# Altium schematic symbol library Button.SchLib: 27 symbols
Pins are listed as number, name and electrical type; pins without a type are passive.

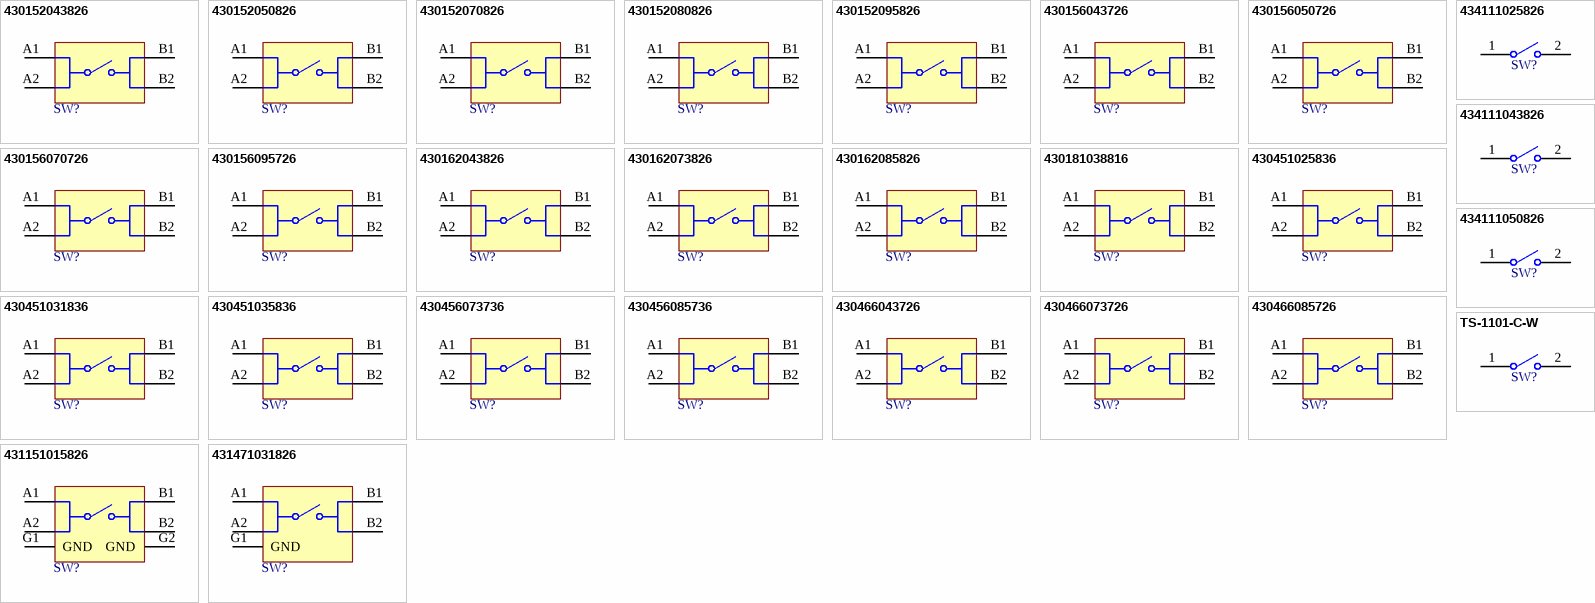
[diagram p0: symbols 430152043826 to TS-1101-C-W]

## 430152043826
designator SW?  (value not drawn)
WS-TASV SMT Tact Switch, L6 x W6 x H4.3mm, 260g, SPST-NO, 12V, 50mA; Manufacturer: Wurth Elektronik; Washable: No; Rated Voltage: 12VDC; Manufacturer Part Number: 430152043826; Category: Tact Switches; Match Code: WS-TASV; Mount: Surface Mount; Operating Temperature Max: 85°C; Operating Temperature Min: -40°C; Packaging: Tape and Reel; Length: 6mm; Width: 6mm; Height: 4.3mm; Circuit: SPST-NO; Contact Material: Stainless Steel; Operation Force: 260g; Rated Current: 50mA; Terminal Material: Copper Alloy; Terminal Plating: Silver; Supplier 1 URL: https://www.mouser.vn/ProductDetail/Wurth-Elektronik/430152043826?qs=wr8lucFkNMUjBcFj1giTsA%3D%3D; Supplier 2 URL: https://www.digikey.com/en/products/detail/w%C3%BCrth-elektronik/430152043826/5208994; Supplier 3 URL: https://www.thegioiic.com/nut-nhan-6x6mm-cao-4-3mm-4-chan-smd; LCSC Part #: N/A; ComponentLink1Description: Datasheet; ComponentLink1URL: https://www.we-online.com/redexpert/spec/430152043826?ad; Package / Case: 0805; Supplier 1: Mouser; Supplier 1 Part Number: 710-430152043826; Supplier 2: Digi-Key; Supplier 2 Part Number: 732-6991-2-ND; Supplier 3: thegioiic; Supplier 3 Part Number: OEM; Value: 430152043826
footprint WS-TASV_L6W6H4.3_4301x20438x6
pins: A1, A2, B1, B2

## 430152050826
designator SW?  (value not drawn)
WS-TASV SMT Tact Switch, L6 x W6 x H5mm, 260g, SPST-NO, 12V, 50mA; Manufacturer: Wurth Elektronik; Washable: No; Rated Voltage: 12VDC; Manufacturer Part Number: 430152050826; Category: Tact Switches; Match Code: WS-TASV; Mount: Surface Mount; Operating Temperature Max: 85°C; Operating Temperature Min: -40°C; Packaging: Tape and Reel; Length: 6mm; Width: 6mm; Height: 5mm; Circuit: SPST-NO; Contact Material: Stainless Steel; Operation Force: 260g; Rated Current: 50mA; Terminal Material: Copper Alloy; Terminal Plating: Silver; Supplier 1 URL: https://www.mouser.vn/ProductDetail/Wurth-Elektronik/430152050826?qs=wr8lucFkNMXbUWez0eOAow%3D%3D; Supplier 2 URL: https://www.digikey.com/en/products/detail/w%C3%BCrth-elektronik/430152050826/5208996; Supplier 3 URL: https://www.thegioiic.com/nut-nhan-6x6mm-cao-5mm-4-chan-smd; LCSC Part #: N/A; ComponentLink1Description: Datasheet; ComponentLink1URL: https://www.we-online.com/redexpert/spec/430152050826?ad; Package / Case: 0805; Supplier 1: Mouser; Supplier 1 Part Number: 710-430152050826; Supplier 2: Digi-Key; Supplier 2 Part Number: 732-6993-2-ND; Supplier 3: thegioiic; Supplier 3 Part Number: OEM; Value: 430152050826
footprint WS-TASV_L6W6H5_4301x20508x6
pins: A1, A2, B1, B2

## 430152070826
designator SW?  (value not drawn)
WS-TASV SMT Tact Switch, L6 x W6 x H7mm, 260g, SPST-NO, 12V, 50mA; Manufacturer: Wurth Elektronik; Washable: No; Rated Voltage: 12VDC; Manufacturer Part Number: 430152070826; Category: Tact Switches; Match Code: WS-TASV; Mount: Surface Mount; Operating Temperature Max: 85°C; Operating Temperature Min: -40°C; Packaging: Tape and Reel; Length: 6mm; Width: 6mm; Height: 7mm; Circuit: SPST-NO; Contact Material: Stainless Steel; Operation Force: 260g; Rated Current: 50mA; Terminal Material: Copper Alloy; Terminal Plating: Silver; Supplier 1 URL: https://www.mouser.vn/ProductDetail/Wurth-Elektronik/430152070826?qs=wr8lucFkNMU1ehywepWrdw%3D%3D; Supplier 2 URL: https://www.digikey.com/en/products/detail/w%C3%BCrth-elektronik/430152070826/5208998; Supplier 3 URL: https://www.thegioiic.com/nut-nhan-6x6mm-cao-7mm-4-chan-smd; LCSC Part #: N/A; ComponentLink1Description: Datasheet; ComponentLink1URL: https://www.we-online.com/redexpert/spec/430152070826?ad; Package / Case: 0805; Supplier 1: Mouser; Supplier 1 Part Number: 710-430152070826; Supplier 2: Digi-Key; Supplier 2 Part Number: 732-6995-2-ND; Supplier 3: thegioiic; Supplier 3 Part Number: OEM; Value: 430152070826
footprint WS-TASV_L6W6H7_4301x20708x6
pins: A1, A2, B1, B2

## 430152080826
designator SW?  (value not drawn)
WS-TASV SMT Tact Switch, L6 x W6 x H8mm, 260g, SPST-NO, 12V, 50mA; Manufacturer: Wurth Elektronik; Washable: No; Rated Voltage: 12VDC; Manufacturer Part Number: 430152080826; Category: Tact Switches; Match Code: WS-TASV; Mount: Surface Mount; Operating Temperature Max: 85°C; Operating Temperature Min: -40°C; Packaging: Tape and Reel; Length: 6mm; Width: 6mm; Height: 8mm; Circuit: SPST-NO; Contact Material: Stainless Steel; Operation Force: 260g; Rated Current: 50mA; Terminal Material: Copper Alloy; Terminal Plating: Silver; Supplier 1 URL: https://www.mouser.vn/ProductDetail/Wurth-Elektronik/430152080826?qs=wr8lucFkNMVrqk6KzzD5nA%3D%3D; Supplier 2 URL: https://www.digikey.com/en/products/detail/w%C3%BCrth-elektronik/430152080826/5209000; Supplier 3 URL: https://www.thegioiic.com/nut-nhan-6x6mm-cao-8mm-4-chan-smd; LCSC Part #: N/A; ComponentLink1Description: Datasheet; ComponentLink1URL: https://www.we-online.com/redexpert/spec/430152080826?ad; Package / Case: 0805; Supplier 1: Mouser; Supplier 1 Part Number: 710-430152080826; Supplier 2: Digi-Key; Supplier 2 Part Number: 732-6997-2-ND; Supplier 3: thegioiic; Supplier 3 Part Number: OEM; Value: 430152080826
footprint WS-TASV_L6W6H8_4301x20808x6
pins: A1, A2, B1, B2

## 430152095826
designator SW?  (value not drawn)
WS-TASV SMT Tact Switch, L6 x W6 x H9.5mm, 260g, SPST-NO, 12V, 50mA; Manufacturer: Wurth Elektronik; Washable: No; Rated Voltage: 12VDC; Manufacturer Part Number: 430152095826; Category: Tact Switches; Match Code: WS-TASV; Mount: Surface Mount; Operating Temperature Max: 85°C; Operating Temperature Min: -40°C; Packaging: Tape and Reel; Length: 6mm; Width: 6mm; Height: 9.5mm; Circuit: SPST-NO; Contact Material: Stainless Steel; Operation Force: 260g; Rated Current: 50mA; Terminal Material: Copper Alloy; Terminal Plating: Silver; Supplier 1 URL: https://www.mouser.vn/ProductDetail/Wurth-Elektronik/430152095826?qs=wr8lucFkNMW6hiihfkGj%2FQ%3D%3D; Supplier 2 URL: https://www.digikey.com/en/products/detail/w%C3%BCrth-elektronik/430152095826/5209002; Supplier 3 URL: https://www.thegioiic.com/nut-nhan-6x6mm-cao-9mm-4-chan-smd; LCSC Part #: N/A; ComponentLink1Description: Datasheet; ComponentLink1URL: https://www.we-online.com/redexpert/spec/430152095826?ad; Package / Case: 0805; Supplier 1: Mouser; Supplier 1 Part Number: 710-430152095826; Supplier 2: Digi-Key; Supplier 2 Part Number: 732-6999-2-ND; Supplier 3: thegioiic; Supplier 3 Part Number: OEM; Value: 430152095826
footprint WS-TASV_L6W6H9.5_4301x20958x6
pins: A1, A2, B1, B2

## 430156043726
designator SW?  (value not drawn)
WS-TATV THT Tact Switch 6x6mm, SPST-NO, 12VDC, 50mA, 260g; Manufacturer: Wurth Elektronik; Washable: No; Manufacturer Part Number: 430156043726; Category: Tact Switches; Match Code: WS-TATV; Mount: Through Hole; Operating Temperature Max: 85°C; Operating Temperature Min: -40°C; Packaging: Bulk; Length: 6mm; Width: 6mm; Height: 4.3mm; Circuit: SPST-NO; Contact Material: Stainless Steel; Operation Force: 260g; Rated Current: 50mA; Rated Voltage: 12VDC; Terminal Material: Copper Alloy; Terminal Plating: Silver; Supplier 1 URL: https://www.mouser.vn/ProductDetail/Wurth-Elektronik/430156043726?qs=wr8lucFkNMVvKRpwxYTfow%3D%3D; Supplier 2 URL: https://www.digikey.com/en/products/detail/w%C3%BCrth-elektronik/430156043726/5209006; Supplier 3 URL: https://www.thegioiic.com/nut-nhan-6x6mm-cao-4-3mm-4-chan-xuyen-lo; LCSC Part #: N/A; ComponentLink1Description: Datasheet; ComponentLink1URL: https://www.we-online.com/redexpert/spec/430156043726?ad; Package / Case: 0805; Supplier 1: Mouser; Supplier 1 Part Number: 710-430156043726; Supplier 2: Digi-Key; Supplier 2 Part Number: 430156043726-ND; Supplier 3: thegioiic; Supplier 3 Part Number: OEM; Value: 430156043726
footprint 4301x60437x6
pins: A1, A2, B1, B2

## 430156050726
designator SW?  (value not drawn)
WS-TATV THT Tact Switch 6x6mm, SPST-NO, 12VDC, 50mA, 260g; Manufacturer: Wurth Elektronik; Washable: No; Manufacturer Part Number: 430156050726; Category: Tact Switches; Match Code: WS-TATV; Mount: Through Hole; Operating Temperature Max: 85°C; Operating Temperature Min: -40°C; Packaging: Bulk; Length: 6mm; Width: 6mm; Height: 5mm; Circuit: SPST-NO; Contact Material: Stainless Steel; Operation Force: 260g; Rated Current: 50mA; Rated Voltage: 12VDC; Terminal Material: Copper Alloy; Terminal Plating: Silver; Supplier 1 URL: https://www.mouser.vn/ProductDetail/Wurth-Elektronik/430156050726?qs=wr8lucFkNMXAQ5fIFHiwBQ%3D%3D; Supplier 2 URL: https://www.digikey.com/en/products/detail/w%C3%BCrth-elektronik/430156050726/5209008; Supplier 3 URL: https://www.thegioiic.com/nut-nhan-6x6mm-cao-5mm-4-chan-xuyen-lo; LCSC Part #: N/A; ComponentLink1Description: Datasheet; ComponentLink1URL: https://www.we-online.com/redexpert/spec/430156050726?ad; Package / Case: 0805; Supplier 1: Mouser; Supplier 1 Part Number: 710-430156050726; Supplier 2: Digi-Key; Supplier 2 Part Number: 430156050726-ND; Supplier 3: thegioiic; Supplier 3 Part Number: OEM; Value: 430156050726
footprint 4301x60507x6
pins: A1, A2, B1, B2

## 430156070726
designator SW?  (value not drawn)
WS-TATV THT Tact Switch 6x6mm, SPST-NO, 12VDC, 50mA, 260g; Manufacturer: Wurth Elektronik; Washable: No; Manufacturer Part Number: 430156070726; Category: Tact Switches; Match Code: WS-TATV; Mount: Through Hole; Operating Temperature Max: 85°C; Operating Temperature Min: -40°C; Packaging: Bulk; Length: 6mm; Width: 6mm; Height: 7mm; Circuit: SPST-NO; Contact Material: Stainless Steel; Operation Force: 260g; Rated Current: 50mA; Rated Voltage: 12VDC; Terminal Material: Copper Alloy; Terminal Plating: Silver; Supplier 1 URL: https://www.mouser.vn/ProductDetail/Wurth-Elektronik/430156070726?qs=wr8lucFkNMXAOydb1CGHPQ%3D%3D; Supplier 2 URL: https://www.digikey.com/en/products/detail/w%C3%BCrth-elektronik/430156070726/5209010; Supplier 3 URL: https://www.thegioiic.com/nut-nhan-6x6mm-cao-7mm-4-chan-xuyen-lo; LCSC Part #: N/A; ComponentLink1Description: Datasheet; ComponentLink1URL: https://www.we-online.com/redexpert/spec/430156070726?ad; Package / Case: 0805; Supplier 1: Mouser; Supplier 1 Part Number: 710-430156070726; Supplier 2: Digi-Key; Supplier 2 Part Number: 430156070726-ND; Supplier 3: thegioiic; Supplier 3 Part Number: OEM; Value: 430156070726
footprint 4301x60707x6
pins: A1, A2, B1, B2

## 430156095726
designator SW?  (value not drawn)
WS-TATV THT Tact Switch 6x6mm, SPST-NO, 12VDC, 50mA, 260g; Manufacturer: Wurth Elektronik; Washable: No; Manufacturer Part Number: 430156095726; Category: Tact Switches; Match Code: WS-TATV; Mount: Through Hole; Operating Temperature Max: 85°C; Operating Temperature Min: -40°C; Packaging: Bulk; Length: 6mm; Width: 6mm; Height: 9.5mm; Circuit: SPST-NO; Contact Material: Stainless Steel; Operation Force: 260g; Rated Current: 50mA; Rated Voltage: 12VDC; Terminal Material: Copper Alloy; Terminal Plating: Silver; Supplier 1 URL: https://www.mouser.vn/ProductDetail/Wurth-Elektronik/430156095726?qs=wr8lucFkNMWrYKLaUHLBYA%3D%3D; Supplier 2 URL: https://www.digikey.com/en/products/detail/w%C3%BCrth-elektronik/430156095726/5209012; Supplier 3 URL: https://www.thegioiic.com/nut-nhan-6x6mm-cao-7mm-4-chan-xuyen-lo; LCSC Part #: N/A; ComponentLink1Description: Datasheet; ComponentLink1URL: https://www.we-online.com/redexpert/spec/430156095726?ad; Package / Case: 0805; Supplier 1: Mouser; Supplier 1 Part Number: 710-430156095726; Supplier 2: Digi-Key; Supplier 2 Part Number: 430156095726-ND; Supplier 3: thegioiic; Supplier 3 Part Number: OEM; Value: 430156095726
footprint 4301x60957x6
pins: A1, A2, B1, B2

## 430162043826
designator SW?  (value not drawn)
WS-TASV SMT Tact Switch, L12 x W12 x H4.3mm, 260g, SPST-NO, 12V, 50mA; Manufacturer: Wurth Elektronik; Washable: No; Rated Voltage: 12VDC; Manufacturer Part Number: 430162043826; Category: Tact Switches; Match Code: WS-TASV; Mount: Surface Mount; Operating Temperature Max: 85°C; Operating Temperature Min: -40°C; Packaging: Tape and Reel; Length: 12mm; Width: 12mm; Height: 4.3mm; Circuit: SPST-NO; Contact Material: Stainless Steel; Operation Force: 260g; Rated Current: 50mA; Terminal Material: Copper Alloy; Terminal Plating: Silver; Supplier 1 URL: https://www.mouser.vn/ProductDetail/Wurth-Elektronik/430162043826?qs=sPbYRqrBIVkEIWSodsnONA%3D%3D; Supplier 2 URL: https://www.digikey.com/en/products/detail/w%C3%BCrth-elektronik/430162043826/9950802; Supplier 3 URL: https://www.thegioiic.com/nut-nhan-12x12mm-cao-4-3mm-4-chan-smd; LCSC Part #: N/A; ComponentLink1Description: Datasheet; ComponentLink1URL: https://www.we-online.com/redexpert/spec/430162043826?ad; Package / Case: 0805; Supplier 1: Mouser; Supplier 1 Part Number: 710-430162043826; Supplier 2: Digi-Key; Supplier 2 Part Number: 732-13655-2-ND; Supplier 3: thegioiic; Supplier 3 Part Number: OEM; Value: 430162043826
footprint WS-TASV_L12W12H4.3_4301x20438x6
pins: A1, A2, B1, B2

## 430162073826
designator SW?  (value not drawn)
WS-TASV SMT Tact Switch, L12 x W12 x H7.3mm, 260g, SPST-NO, 12V, 50mA; Manufacturer: Wurth Elektronik; Washable: No; Rated Voltage: 12VDC; Manufacturer Part Number: 430162073826; Category: Tact Switches; Match Code: WS-TASV; Mount: Surface Mount; Operating Temperature Max: 85°C; Operating Temperature Min: -40°C; Packaging: Tape and Reel; Length: 12mm; Width: 12mm; Height: 7.3mm; Circuit: SPST-NO; Contact Material: Stainless Steel; Operation Force: 260g; Rated Current: 50mA; Terminal Material: Copper Alloy; Terminal Plating: Silver; Supplier 1 URL: https://www.mouser.vn/ProductDetail/Wurth-Elektronik/430162073826?qs=sPbYRqrBIVnU2U4pD5JJ5w%3D%3D; Supplier 2 URL: https://www.digikey.com/en/products/detail/w%C3%BCrth-elektronik/430162073826/9950803; Supplier 3 URL: https://www.thegioiic.com/nut-nhan-12x12mm-cao-7-3mm-4-chan-smd; LCSC Part #: N/A; ComponentLink1Description: Datasheet; ComponentLink1URL: https://www.we-online.com/redexpert/spec/430162073826?ad; Package / Case: 0805; Supplier 1: Mouser; Supplier 1 Part Number: 710-430162073826; Supplier 2: Digi-Key; Supplier 2 Part Number: 732-13656-2-ND; Supplier 3: thegioiic; Supplier 3 Part Number: OEM; Value: 430162073826
footprint WS-TASV_L12W12H7.3_4301x20738x6
pins: A1, A2, B1, B2

## 430162085826
designator SW?  (value not drawn)
WS-TASV SMT Tact Switch, L12 x W12 x H8.5mm, 260g, SPST-NO, 12V, 50mA; Manufacturer: Wurth Elektronik; Washable: No; Rated Voltage: 12VDC; Manufacturer Part Number: 430162085826; Category: Tact Switches; Match Code: WS-TASV; Mount: Surface Mount; Operating Temperature Max: 85°C; Operating Temperature Min: -40°C; Packaging: Tape and Reel; Length: 12mm; Width: 12mm; Height: 8.5mm; Circuit: SPST-NO; Contact Material: Stainless Steel; Operation Force: 260g; Rated Current: 50mA; Terminal Material: Copper Alloy; Terminal Plating: Silver; Supplier 1 URL: https://www.mouser.vn/ProductDetail/Wurth-Elektronik/430162085826?qs=sPbYRqrBIVnNOZ1%252Bx8%2F2Rw%3D%3D; Supplier 2 URL: https://www.digikey.com/en/products/detail/w%C3%BCrth-elektronik/430162085826/9950804?s=N4IgTCBcDaICwGYAMBGAbGJAOArFsaIAugL5A; Supplier 3 URL: N/A; LCSC Part #: N/A; ComponentLink1Description: Datasheet; ComponentLink1URL: https://www.we-online.com/redexpert/spec/430162085826?ad; Package / Case: 0805; Supplier 1: Mouser; Supplier 1 Part Number: 710-430162085826; Supplier 2: Digi-Key; Supplier 2 Part Number: 732-13657-2-ND; Supplier 3: thegioiic; Supplier 3 Part Number: OEM; Value: 430162085826
footprint WS-TASV_L12W12H8.5_4301x20858x6
pins: A1, A2, B1, B2

## 430181038816
designator SW?  (value not drawn)
WS-TASV SMT Tact Switch, L4.5 x W4.5 x H3.8mm, 160g, SPST-NO, 12V, 50mA; Manufacturer: Wurth Elektronik; Washable: No; Rated Voltage: 12VDC; Manufacturer Part Number: 430181038816; Category: Tact Switches; Match Code: WS-TASV; Mount: Surface Mount; Operating Temperature Max: 85°C; Operating Temperature Min: -40°C; Packaging: Tape and Reel; Length: 4.5mm; Width: 4.5mm; Height: 3.8mm; Circuit: SPST-NO; Contact Material: Stainless Steel; Operation Force: 160g; Rated Current: 50mA; Terminal Material: Copper Alloy; Terminal Plating: Silver; Supplier 1 URL: https://www.mouser.vn/ProductDetail/Wurth-Elektronik/430181038816?qs=wr8lucFkNMWIANaPOquJXg%3D%3D; Supplier 2 URL: https://www.digikey.com/en/products/detail/w%C3%BCrth-elektronik/430181038816/5209016?s=N4IgTCBcDaICwGYAMBGAHCpC0YGwgF0BfIA; Supplier 3 URL: https://www.thegioiic.com/nut-nhan-4-5x4-5mm-cao-3-8mm-4-chan-smd; LCSC Part #: N/A; ComponentLink1Description: Datasheet; ComponentLink1URL: https://www.we-online.com/redexpert/spec/430181038816?ad; Package / Case: 0805; Supplier 1: Mouser; Supplier 1 Part Number: 710-430181038816; Supplier 2: Digi-Key; Supplier 2 Part Number: 732-7003-2-ND; Supplier 3: thegioiic; Supplier 3 Part Number: OEM; Value: 430181038816
footprint WS-TASV_L4.5W4.5H3.8_430181038816
pins: A1, A2, B1, B2

## 430451025836
designator SW?  (value not drawn)
WS-TASV SMT Washable Tact Switch, L6 x W6 x H2.5mm, 360g, SPST-NO, 12V, 50mA; Manufacturer: Wurth Elektronik; Washable: Yes; Rated Voltage: 12VDC; Manufacturer Part Number: 430451025836; Category: Tact Switches; Match Code: WS-TASV; Mount: Surface Mount; Operating Temperature Max: 85°C; Operating Temperature Min: -40°C; Packaging: Tape and Reel; Length: 6mm; Width: 6mm; Height: 2.5mm; Circuit: SPST-NO; Contact Material: Stainless Steel; Operation Force: 360g; Rated Current: 50mA; Terminal Material: Brass; Terminal Plating: Silver; Supplier 1 URL: https://www.mouser.vn/ProductDetail/Wurth-Elektronik/430451025836?qs=wr8lucFkNMUcyG98dMqOjA%3D%3D; Supplier 2 URL: https://www.digikey.com/en/products/detail/w%C3%BCrth-elektronik/430451025836/5209028?s=N4IgTCBcDaICwGYAMcCsBGJZUA4EDYQBdAXyA; Supplier 3 URL: https://www.thegioiic.com/nut-nhan-6x6mm-cao-2-5mm-4-chan-smd-dau-do; LCSC Part #: N/A; ComponentLink1Description: Datasheet; ComponentLink1URL: https://www.we-online.com/redexpert/spec/430451025836?ad; Package / Case: 0805; Supplier 1: Mouser; Supplier 1 Part Number: 710-430451025836; Supplier 2: Digi-Key; Supplier 2 Part Number: 732-7010-2-ND; Supplier 3: thegioiic; Supplier 3 Part Number: OEM; Value: 430451025836
footprint WS-TASV_L6W6H2.5_4304x10258x6
pins: A1, A2, B1, B2

## 430451031836
designator SW?  (value not drawn)
WS-TASV SMT Washable Tact Switch, L6 x W6 x H3.1mm, 360g, SPST-NO, 12V, 50mA; Manufacturer: Wurth Elektronik; Washable: Yes; Rated Voltage: 12VDC; Manufacturer Part Number: 430451031836; Category: Tact Switches; Match Code: WS-TASV; Mount: Surface Mount; Operating Temperature Max: 85°C; Operating Temperature Min: -40°C; Packaging: Tape and Reel; Length: 6mm; Width: 6mm; Height: 3.1mm; Circuit: SPST-NO; Contact Material: Stainless Steel; Operation Force: 360g; Rated Current: 50mA; Terminal Material: Brass; Terminal Plating: Silver; Supplier 1 URL: https://www.mouser.vn/ProductDetail/Wurth-Elektronik/430451031836?qs=wr8lucFkNMUrTWmDTdbqqw%3D%3D; Supplier 2 URL: https://www.digikey.com/en/products/detail/w%C3%BCrth-elektronik/430451031836/5209029; Supplier 3 URL: N/A; LCSC Part #: N/A; ComponentLink1Description: Datasheet; ComponentLink1URL: https://www.we-online.com/redexpert/spec/430451031836?ad; Package / Case: 0805; Supplier 1: Mouser; Supplier 1 Part Number: 710-430451031836; Supplier 2: Digi-Key; Supplier 2 Part Number: 732-7011-2-ND; Supplier 3: thegioiic; Supplier 3 Part Number: OEM; Value: 430451031836
footprint WS-TASV_L6W6H3.1_4304x10318x6
pins: A1, A2, B1, B2

## 430451035836
designator SW?  (value not drawn)
WS-TASV SMT Washable Tact Switch, L6 x W6 x H3.5mm, 360g, SPST-NO, 12V, 50mA; Manufacturer: Wurth Elektronik; Washable: Yes; Rated Voltage: 12VDC; Manufacturer Part Number: 430451035836; Category: Tact Switches; Match Code: WS-TASV; Mount: Surface Mount; Operating Temperature Max: 85°C; Operating Temperature Min: -40°C; Packaging: Tape and Reel; Length: 6mm; Width: 6mm; Height: 3.5mm; Circuit: SPST-NO; Contact Material: Stainless Steel; Operation Force: 360g; Rated Current: 50mA; Terminal Material: Brass; Terminal Plating: Silver; Supplier 1 URL: https://www.mouser.vn/ProductDetail/Wurth-Elektronik/430451035836?qs=wr8lucFkNMVsx4f3WHCAuQ%3D%3D; Supplier 2 URL: https://www.digikey.com/en/products/detail/w%C3%BCrth-elektronik/430451035836/5209030; Supplier 3 URL: https://www.thegioiic.com/nut-nhan-6x6mm-cao-3-4mm-4-chan-smd-dau-do; LCSC Part #: N/A; ComponentLink1Description: Datasheet; ComponentLink1URL: https://www.we-online.com/redexpert/spec/430451035836?ad; Package / Case: 0805; Supplier 1: Mouser; Supplier 1 Part Number: 710-430451035836; Supplier 2: Digi-Key; Supplier 2 Part Number: 732-7012-2-ND; Supplier 3: thegioiic; Supplier 3 Part Number: OEM; Value: 430451035836
footprint WS-TASV_L6W6H3.5_4304x10358x6
pins: A1, A2, B1, B2

## 430456073736
designator SW?  (value not drawn)
WS-TATV THT Washable Tact Switch 12x12mm, SPST-NO, 12VDC, 50mA, 360g; Manufacturer: Wurth Elektronik; Washable: Yes; Manufacturer Part Number: 430456073736; Category: Tact Switches; Match Code: WS-TATV; Mount: Through Hole; Operating Temperature Max: 85°C; Operating Temperature Min: -40°C; Packaging: Bulk; Length: 12mm; Width: 12mm; Height: 7.3mm; Circuit: SPST-NO; Contact Material: Stainless Steel; Operation Force: 360g; Rated Current: 50mA; Rated Voltage: 12VDC; Terminal Material: Copper Alloy; Terminal Plating: Silver; Supplier 1 URL: https://www.mouser.vn/ProductDetail/Wurth-Elektronik/430456073736?qs=wr8lucFkNMXwMRqJai0DMg%3D%3D; Supplier 2 URL: https://www.digikey.com/en/products/detail/w%C3%BCrth-elektronik/430456073736/5209035; Supplier 3 URL: https://www.thegioiic.com/b3f-4055-nut-nhan-12x12mm-cao-7-3mm-4-chan-xuyen-lo-omron; LCSC Part #: N/A; ComponentLink1Description: Datasheet; ComponentLink1URL: https://www.we-online.com/redexpert/spec/430456073736?ad; Package / Case: 0805; Supplier 1: Mouser; Supplier 1 Part Number: 710-430456073736; Supplier 2: Digi-Key; Supplier 2 Part Number: 430456073736-ND; Supplier 3: thegioiic; Supplier 3 Part Number: OEM; Value: 430456073736
footprint 4304x60737x6
pins: A1, A2, B1, B2

## 430456085736
designator SW?  (value not drawn)
WS-TATV THT Washable Tact Switch 12x12mm, SPST-NO, 12VDC, 50mA, 360g; Manufacturer: Wurth Elektronik; Washable: Yes; Manufacturer Part Number: 430456085736; Category: Tact Switches; Match Code: WS-TATV; Mount: Through Hole; Operating Temperature Max: 85°C; Operating Temperature Min: -40°C; Packaging: Bulk; Length: 12mm; Width: 12mm; Height: 8.5mm; Circuit: SPST-NO; Contact Material: Stainless Steel; Operation Force: 360g; Rated Current: 50mA; Rated Voltage: 12VDC; Terminal Material: Copper Alloy; Terminal Plating: Silver; Supplier 1 URL: https://www.mouser.vn/ProductDetail/Wurth-Elektronik/430456085736?qs=wr8lucFkNMWKyynw0IFpeA%3D%3D; Supplier 2 URL: https://www.digikey.com/en/products/detail/w%C3%BCrth-elektronik/430456085736/5209036; Supplier 3 URL: N/A; LCSC Part #: N/A; ComponentLink1Description: Datasheet; ComponentLink1URL: https://www.we-online.com/redexpert/spec/430456085736?ad; Package / Case: 0805; Supplier 1: Mouser; Supplier 1 Part Number: 710-430456085736; Supplier 2: Digi-Key; Supplier 2 Part Number: 430456085736-ND; Supplier 3: thegioiic; Supplier 3 Part Number: OEM; Value: 430456085736
footprint 4304x60857x6
pins: A1, A2, B1, B2

## 430466043726
designator SW?  (value not drawn)
WS-TATV THT Washable Tact Switch 12x12mm, SPST-NO, 12VDC, 50mA, 260g; Manufacturer: Wurth Elektronik; Washable: Yes; Manufacturer Part Number: 430466043726; Category: Tact Switches; Match Code: WS-TATV; Mount: Through Hole; Operating Temperature Max: 85°C; Operating Temperature Min: -40°C; Packaging: Bulk; Length: 12mm; Width: 12mm; Height: 4.3mm; Circuit: SPST-NO; Contact Material: Stainless Steel; Operation Force: 260g; Rated Current: 50mA; Rated Voltage: 12VDC; Terminal Material: Copper Alloy; Terminal Plating: Silver; Supplier 1 URL: https://www.mouser.vn/ProductDetail/Wurth-Elektronik/430466043726?qs=wr8lucFkNMVNkuJMxWrs%2Fw%3D%3D; Supplier 2 URL: https://www.digikey.com/en/products/detail/w%C3%BCrth-elektronik/430466043726/5209037; Supplier 3 URL: https://www.thegioiic.com/nut-nhan-12x12mm-cao-4-3mm-4-chan-xuyen-lo; LCSC Part #: N/A; ComponentLink1Description: Datasheet; ComponentLink1URL: https://www.we-online.com/redexpert/spec/430466043726?ad; Package / Case: 0805; Supplier 1: Mouser; Supplier 1 Part Number: 710-430466043726; Supplier 2: Digi-Key; Supplier 2 Part Number: 430466043726-ND; Supplier 3: thegioiic; Supplier 3 Part Number: OEM; Value: 430466043726
footprint 4304x60437x6
pins: A1, A2, B1, B2

## 430466073726
designator SW?  (value not drawn)
WS-TATV THT Washable Tact Switch 12x12mm, SPST-NO, 12VDC, 50mA, 260g; Manufacturer: Wurth Elektronik; Washable: Yes; Manufacturer Part Number: 430466073726; Category: Tact Switches; Match Code: WS-TATV; Mount: Through Hole; Operating Temperature Max: 85°C; Operating Temperature Min: -40°C; Packaging: Bulk; Length: 12mm; Width: 12mm; Height: 7.3mm; Circuit: SPST-NO; Contact Material: Stainless Steel; Operation Force: 260g; Rated Current: 50mA; Rated Voltage: 12VDC; Terminal Material: Copper Alloy; Terminal Plating: Silver; Supplier 1 URL: https://www.mouser.vn/ProductDetail/Wurth-Elektronik/430466073726?qs=wr8lucFkNMU8Y7Fp1J5cEQ%3D%3D; Supplier 2 URL: https://www.digikey.com/en/products/detail/w%C3%BCrth-elektronik/430466073726/5209038; Supplier 3 URL: https://www.thegioiic.com/b3f-4055-nut-nhan-12x12mm-cao-7-3mm-4-chan-xuyen-lo-omron; LCSC Part #: N/A; ComponentLink1Description: Datasheet; ComponentLink1URL: https://www.we-online.com/redexpert/spec/430466073726?ad; Package / Case: 0805; Supplier 1: Mouser; Supplier 1 Part Number: 710-430466073726; Supplier 2: Digi-Key; Supplier 2 Part Number: 430466073726-ND; Supplier 3: thegioiic; Supplier 3 Part Number: OEM; Value: 430466073726
footprint 4304x60737x6
pins: A1, A2, B1, B2

## 430466085726
designator SW?  (value not drawn)
WS-TATV THT Washable Tact Switch 12x12mm, SPST-NO, 12VDC, 50mA, 260g; Manufacturer: Wurth Elektronik; Washable: Yes; Manufacturer Part Number: 430466085726; Category: Tact Switches; Match Code: WS-TATV; Mount: Through Hole; Operating Temperature Max: 85°C; Operating Temperature Min: -40°C; Packaging: Bulk; Length: 12mm; Width: 12mm; Height: 8.5mm; Circuit: SPST-NO; Contact Material: Stainless Steel; Operation Force: 260g; Rated Current: 50mA; Rated Voltage: 12VDC; Terminal Material: Copper Alloy; Terminal Plating: Silver; Supplier 1 URL: https://www.mouser.vn/ProductDetail/Wurth-Elektronik/430466085726?qs=wr8lucFkNMXCSGyn4y5oOA%3D%3D; Supplier 2 URL: https://www.digikey.com/en/products/detail/w%C3%BCrth-elektronik/430466085726/5209039; Supplier 3 URL: https://www.thegioiic.com/nut-nhan-12x12mm-cao-8mm-4-chan-xuyen-lo; LCSC Part #: N/A; ComponentLink1Description: Datasheet; ComponentLink1URL: https://www.we-online.com/redexpert/spec/430466085726?ad; Package / Case: 0805; Supplier 1: Mouser; Supplier 1 Part Number: 710-430466085726; Supplier 2: Digi-Key; Supplier 2 Part Number: 430466085726-ND; Supplier 3: thegioiic; Supplier 3 Part Number: OEM; Value: 430466085726
footprint 4304x60857x6
pins: A1, A2, B1, B2

## 431151015826
designator SW?  (value not drawn)
WS-TASV SMT Tact Switch with ground terminal, L5 x W5 x H1.5mm, 260g, SPST-NO, 15V, 20mA; Manufacturer: Wurth Elektronik; Washable: No; Rated Voltage: 12VDC; Manufacturer Part Number: 431151015826; Category: Tact Switches; Match Code: WS-TASV; Mount: Surface Mount; Operating Temperature Max: 85°C; Operating Temperature Min: -40°C; Packaging: Tape and Reel; Length: 5mm; Width: 5mm; Height: 1.5mm; Circuit: SPST-NO; Contact Material: Stainless Steel; Operation Force: 260g; Rated Current: 20mA; Terminal Material: Copper Alloy; Terminal Plating: Silver; Supplier 1 URL: https://www.mouser.vn/ProductDetail/Wurth-Elektronik/431151015826?qs=wr8lucFkNMWt0fEnpc%252BesA%3D%3D; Supplier 2 URL: https://www.digikey.com/en/products/detail/w%C3%BCrth-elektronik/431151015826/5209056; Supplier 3 URL: N/A; LCSC Part #: N/A; ComponentLink1Description: Datasheet; ComponentLink1URL: https://www.we-online.com/redexpert/spec/431151015826?ad; Package / Case: 0805; Supplier 1: Mouser; Supplier 1 Part Number: 710-431151015826; Supplier 2: Digi-Key; Supplier 2 Part Number: 732-7029-2-ND; Supplier 3: thegioiic; Supplier 3 Part Number: OEM; Value: 431151015826
footprint WS-TASV_L5W5H1.5_4311x10158x6
pins: A1, A2, B1, B2, G1 GND, G2 GND

## 431471031826
designator SW?  (value not drawn)
WS-TASV SMT Tact Switch with ground terminal, L6 x W6 x H3.1mm, 260g, SPST-NO, 12V, 50mA; Manufacturer: Wurth Elektronik; Washable: Yes; Rated Voltage: 12VDC; Manufacturer Part Number: 431471031826; Category: Tact Switches; Match Code: WS-TASV; Mount: Surface Mount; Operating Temperature Max: 85°C; Operating Temperature Min: -40°C; Packaging: Tape and Reel; Length: 6mm; Width: 6mm; Height: 3.1mm; Circuit: SPST-NO; Contact Material: Stainless Steel; Operation Force: 260g; Rated Current: 50mA; Terminal Material: Copper Alloy; Terminal Plating: Silver; Supplier 1 URL: https://www.mouser.vn/ProductDetail/Wurth-Elektronik/431471031826?qs=wr8lucFkNMUEyh4Xi6BS1A%3D%3D; Supplier 2 URL: https://www.digikey.com/en/products/detail/w%C3%BCrth-elektronik/431471031826/5209069; Supplier 3 URL: https://www.thegioiic.com/nut-nhan-6x6mm-cao-3-1mm-5-chan-smd-dau-do; LCSC Part #: N/A; ComponentLink1Description: Datasheet; ComponentLink1URL: https://www.we-online.com/redexpert/spec/431471031826?ad; Package / Case: 0805; Supplier 1: Mouser; Supplier 1 Part Number: 710-431471031826; Supplier 2: Digi-Key; Supplier 2 Part Number: 732-7036-2-ND; Supplier 3: thegioiic; Supplier 3 Part Number: OEM; Value: 431471031826
footprint WS-TASV_L6W6H3.1_4314x10318x6
pins: A1, A2, B1, B2, G1 GND

## 434111025826
designator SW?, comment TAEF-25N-V-T/R  (value not drawn)
WS-TASV SMT Tact Switch, L6 x W3.8 x H2.5mm, 260g, SPST-NO, 12V, 50mA; Manufacturer: Diptronics; Washable: No; Rated Voltage: 12VDC; Manufacturer Part Number: TAEF-25N-V-T/R; Category: Tact Switches; Match Code: WS-TASV; Mount: Surface Mount; Operating Temperature Max: 85°C; Operating Temperature Min: -40°C; Packaging: Tape and Reel; Length: 6mm; Width: 3.8mm; Height: 2.5mm; Circuit: SPST-NO; Contact Material: Stainless Steel; Operation Force: 260g; Rated Current: 50mA; Terminal Material: Copper Alloy; Terminal Plating: Silver; Supplier 1 URL: https://www.mouser.vn/ProductDetail/Wurth-Elektronik/434111025826?qs=wr8lucFkNMV8GC0fIi%2FYYw%3D%3D; Supplier 2 URL: https://www.digikey.com/en/products/detail/w%C3%BCrth-elektronik/434111025826/5209072; Supplier 3 URL: https://www.thegioiic.com/nut-nhan-6x3-8mm-cao-2-5mm-2-chan-smd-dau-xanh-thuong-dong; LCSC Part #: C699451; ComponentLink1Description: Datasheet; ComponentLink1URL: https://datasheet.lcsc.com/lcsc/2007101237_Diptronics-TAEF-25N-V-T-R_C699451.pdf?_gl=1*1eyu9zp*_ga*MTI1Mzk4MDEzNi4xNzAxOTIwNDk2*_ga_98M84MKSZH*MTcxMTM1MTI5NS4xNjkuMS4xNzExMzUxNDAxLjYwLjAuMA..; Package / Case: 0805; Supplier 1: Mouser; Supplier 1 Part Number: 710-434111025826; Supplier 2: Digi-Key; Supplier 2 Part Number: 732-7039-2-ND; Supplier 3: thegioiic; Supplier 3 Part Number: OEM; Value: TAEF-25N-V-T/R
footprint WS-TASV_L6W3.8H2.5_4341x10258x6
pins: 1, 2

## 434111043826
designator SW?  (value not drawn)
WS-TASV SMT Tact Switch, L6 x W3.5 x H4.3mm, 260g, SPST-NO, 12V, 50mA; Manufacturer: Wurth Elektronik; Washable: No; Rated Voltage: 12VDC; Manufacturer Part Number: 434111043826; Category: Tact Switches; Match Code: WS-TASV; Mount: Surface Mount; Operating Temperature Max: 85°C; Operating Temperature Min: -40°C; Packaging: Tape and Reel; Length: 6mm; Width: 3.5mm; Height: 4.3mm; Circuit: SPST-NO; Contact Material: Stainless Steel; Operation Force: 260g; Rated Current: 50mA; Terminal Material: Copper Alloy; Terminal Plating: Silver; Supplier 1 URL: https://www.mouser.vn/ProductDetail/Wurth-Elektronik/434111043826?qs=wr8lucFkNMW3koBfPj4qpQ%3D%3D; Supplier 2 URL: https://www.digikey.com/en/products/detail/w%C3%BCrth-elektronik/434111043826/5209073; Supplier 3 URL: N/A; LCSC Part #: N/A; ComponentLink1Description: Datasheet; ComponentLink1URL: https://www.we-online.com/redexpert/spec/434111043826?ad; Package / Case: 0805; Supplier 1: Mouser; Supplier 1 Part Number: 710-434111043826; Supplier 2: Digi-Key; Supplier 2 Part Number: 732-7040-2-ND; Supplier 3: thegioiic; Supplier 3 Part Number: OEM; Value: 434111043826
footprint WS-TASV_L6W3.5H4.3_4341x10438x6
pins: 1, 2

## 434111050826
designator SW?  (value not drawn)
WS-TASV SMT Tact Switch, L6 x W3.5 x H5mm, 260g, SPST-NO, 12V, 50mA; Manufacturer: Wurth Elektronik; Washable: No; Rated Voltage: 12VDC; Manufacturer Part Number: 434111050826; Category: Tact Switches; Match Code: WS-TASV; Mount: Surface Mount; Operating Temperature Max: 85°C; Operating Temperature Min: -40°C; Packaging: Tape and Reel; Length: 6mm; Width: 3.5mm; Height: 5mm; Circuit: SPST-NO; Contact Material: Stainless Steel; Operation Force: 260g; Rated Current: 50mA; Terminal Material: Copper Alloy; Terminal Plating: Silver; Supplier 1 URL: https://www.mouser.vn/ProductDetail/Wurth-Elektronik/434111050826?qs=wr8lucFkNMW%252BYjUPWhhK5A%3D%3D; Supplier 2 URL: https://www.digikey.com/en/products/detail/w%C3%BCrth-elektronik/434111050826/5209074; Supplier 3 URL: https://www.thegioiic.com/nut-nhan-3-5x6mm-cao-5mm-2-chan-smd-dau-trang; LCSC Part #: N/A; ComponentLink1Description: Datasheet; ComponentLink1URL: https://www.we-online.com/redexpert/spec/434111050826?ad; Package / Case: 0805; Supplier 1: Mouser; Supplier 1 Part Number: 710-434111050826; Supplier 2: Digi-Key; Supplier 2 Part Number: 732-7041-2-ND; Supplier 3: thegioiic; Supplier 3 Part Number: OEM; Value: 434111050826
footprint WS-TASV_L6W3.5H5_4341x10508x6
pins: 1, 2

## TS-1101-C-W
designator SW?  (value not drawn)
Tact Switch, L6 x W3.8 x H2.5mm, 260g, SPST-NO, 12V, 50mA; Manufacturer: XKB Connectivity; Match Code: WS-TASV; Washable: No; Rated Voltage: 12VDC; Manufacturer Part Number: TS-1101-C-W; Category: Tact Switches; Mount: Surface Mount; Operating Temperature Max: 85°C; Operating Temperature Min: -40°C; Packaging: Tape and Reel; Length: 6mm; Width: 3.6mm; Height: 2.5mm; Circuit: SPST-NO; Contact Material: Stainless Steel; Operation Force: 260g; Rated Current: 50mA; Terminal Material: Copper Alloy; Terminal Plating: Silver; Supplier 1 URL: N/A; Supplier 2 URL: N/A; Supplier 3 URL: https://www.thegioiic.com/nut-nhan-3-5x6mm-cao-2-5mm-2-chan-smd-dau-do; LCSC Part #: C318938; ComponentLink1Description: Datasheet; ComponentLink1URL: https://www.we-online.com/redexpert/spec/434111025826?ad; Package / Case: 0805; Supplier 1: Mouser; Supplier 1 Part Number: N/A; Supplier 2: Digi-Key; Supplier 2 Part Number: N/A; Supplier 3: thegioiic; Supplier 3 Part Number: OEM; Value: TS-1101-C-W
footprint TS-1101-C-W
pins: 1, 2